# EAGLE library part 662008231822 (library Wire-to-Board (rev18a))
WR-MPC3 3.00mm Male Dual Row SMT Vertical Header with SMT Fitting Nail, 8 Pins=>Code : Con_WTB_MPC3_2_PCB_SMT_662008231822 <http://katalog.we-online.de/media/thumbs2/eican/thb_Con_WTB_MPC3_2_PCB_SMT_6620xx231822_pf2.jpg> Details see: http://katalog.we-online.de/en/em/MPC3_3_00_SMT_MALE_DUAL_ROW_VERTICAL_HEADER_W_SMT_SOLDER_TAB_6623XX231822 Created 2014-06-06, Karrer Zheng 2014 (C) Würth Elektronik
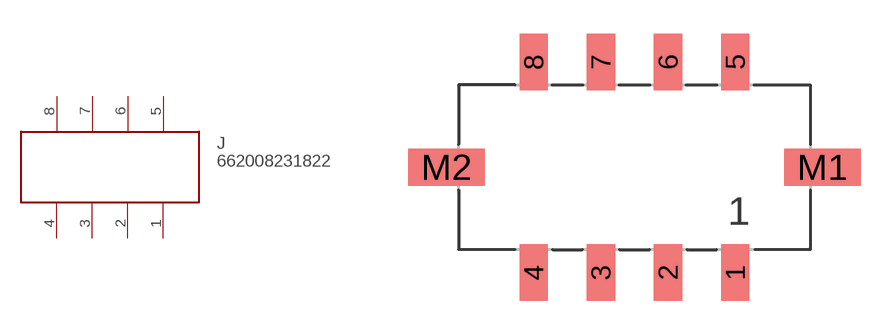
[diagram p342: symbol with the pads of 662008231822; footprint 662008231822]

Designator prefix J

## 662008231822  [662008231822]
1  1
2  2
3  3
4  4
5  5
6  6
7  7
8  8

## Footprint 662008231822 (pad centres in mm)
WR-MPC3 3.00mm Male Dual Row SMT Vertical Header with SMT Fitting Nail, 8 Pins
smd 1.27 x 2.54: 1 4.5,-4.7; 2 1.5,-4.7; 3 -1.5,-4.7; 4 -4.5,-4.7; 5 4.5,4.7; 6 1.5,4.7; 7 -1.5,4.7; 8 -4.5,4.7
smd 3.43 x 1.65: M1 8.395,0; M2 -8.395,0